# Altium footprint library Header.PcbLib: 115 footprints (part 5 of 8)
Each footprint in its own frame and in the unit in brackets; x right, y up, seen from the top. Pads: shape width x height; smd on the part's side, far side on the other; paste and mask are expansions set on the pad; w line width, h text height; cw(c..) or ccw(c..) is an arc to the next point about the centre after c.
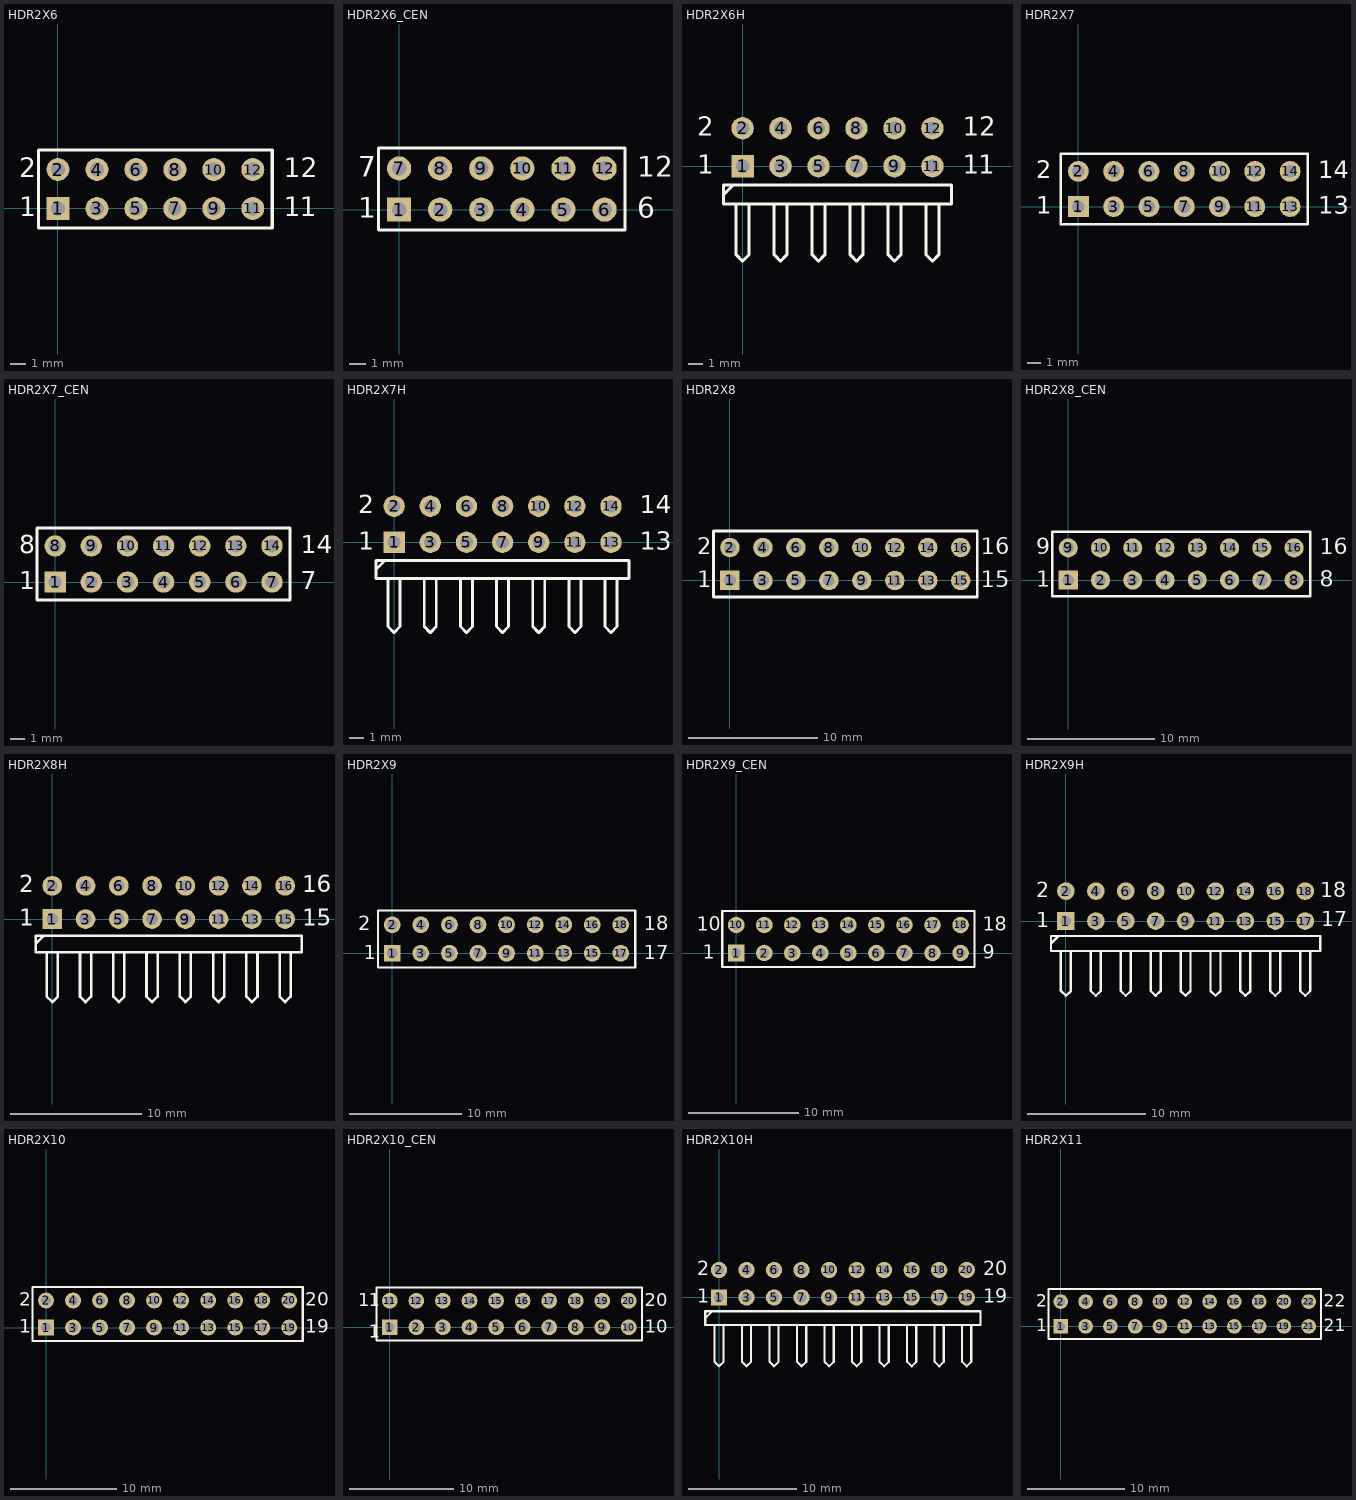
[diagram p4: the footprints below, top view; thin cyan lines are the x and y axes]

## HDR2X6 [mm] "Connector; Header; 6x2 Position"
pads (12):
  rect 1.5x1.5 hole 0.9: 1(0,0)
  round 1.5 hole 0.9: 2(0,2.54) 3(2.54,0) 4(2.54,2.54) 5(5.08,0) 6(5.08,2.54) 7(7.62,0) 8(7.62,2.54) 9(10.16,0) 10(10.16,2.54) 11(12.7,0) 12(12.7,2.54)
Top Overlay:
  lines w0.2: -1.27,-1.27 -1.27,3.81 13.97,3.81 13.97,-1.27 -1.27,-1.27
  text "2" at -2.54,2.032 h1.27
  text "1" at -2.54,-0.508 h1.27
  text "1" at 14.732,-0.508 h1.27
  text "1" at 15.748,-0.508 h1.27
  text "12" at 14.732,2.032 h1.27
3D body: height 1.5, standoff 0, extent -1.27,-1.27 1.27,1.27
3D body: height 1.5, standoff 0, extent -1.27,1.27 1.27,3.81
3D body: height 1.5, standoff 0, extent 1.27,-1.27 3.81,1.27
3D body: height 1.5, standoff 0, extent 1.27,1.27 3.81,3.81
3D body: height 1.5, standoff 0, extent 3.81,-1.27 6.35,1.27
3D body: height 1.5, standoff 0, extent 3.81,1.27 6.35,3.81
3D body: height 1.5, standoff 0, extent 6.35,-1.27 8.89,1.27
3D body: height 1.5, standoff 0, extent 6.35,1.27 8.89,3.81
3D body: height 1.5, standoff 0, extent 8.89,-1.27 11.43,1.27
3D body: height 1.5, standoff 0, extent 8.89,1.27 11.43,3.81
3D body: height 1.5, standoff 0, extent 11.43,-1.27 13.97,1.27
3D body: height 1.5, standoff 0, extent 11.43,1.27 13.97,3.81
3D body: height 7, standoff -1, extent -0.392,2.134 0.406,2.93
3D body: height 7, standoff -1, extent -0.392,-0.406 0.406,0.39
3D body: height 7, standoff -1, extent 2.148,2.134 2.946,2.93
3D body: height 7, standoff -1, extent 2.148,-0.406 2.946,0.39
3D body: height 7, standoff -1, extent 4.688,2.134 5.486,2.93
3D body: height 7, standoff -1, extent 4.688,-0.406 5.486,0.39
3D body: height 7, standoff -1, extent 7.228,2.134 8.026,2.93
3D body: height 7, standoff -1, extent 7.228,-0.406 8.026,0.39

## HDR2X6_CEN [mm] "Connector; Header; 6x2 Position"
pads (12):
  rect 1.5x1.5 hole 0.9: 1(0,0)
  round 1.5 hole 0.9: 2(2.54,0) 3(5.08,0) 4(7.62,0) 5(10.16,0) 6(12.7,0) 7(0,2.54) 8(2.54,2.54) 9(5.08,2.54) 10(7.62,2.54) 11(10.16,2.54) 12(12.7,2.54)
Top Overlay:
  lines w0.2: -1.27,-1.27 -1.27,3.81 13.97,3.81 13.97,-1.27 -1.27,-1.27
  text "7" at -2.54,2.032 h1.27
  text "1" at -2.54,-0.508 h1.27
  text "6" at 14.732,-0.508 h1.27
  text "12" at 14.732,2.032 h1.27
3D body: height 1.5, standoff 0, extent -1.27,-1.27 1.27,1.27
3D body: height 1.5, standoff 0, extent -1.27,1.27 1.27,3.81
3D body: height 1.5, standoff 0, extent 1.27,-1.27 3.81,1.27
3D body: height 1.5, standoff 0, extent 1.27,1.27 3.81,3.81
3D body: height 1.5, standoff 0, extent 3.81,-1.27 6.35,1.27
3D body: height 1.5, standoff 0, extent 3.81,1.27 6.35,3.81
3D body: height 1.5, standoff 0, extent 6.35,-1.27 8.89,1.27
3D body: height 1.5, standoff 0, extent 6.35,1.27 8.89,3.81
3D body: height 1.5, standoff 0, extent 8.89,-1.27 11.43,1.27
3D body: height 1.5, standoff 0, extent 8.89,1.27 11.43,3.81
3D body: height 1.5, standoff 0, extent 11.43,-1.27 13.97,1.27
3D body: height 1.5, standoff 0, extent 11.43,1.27 13.97,3.81

## HDR2X6H [mm] "Connector; Header; 6x2 Position; Right Angle"
pads (12):
  rect 1.5x1.5 hole 0.9: 1(0,0)
  round 1.5 hole 0.9: 2(0,2.54) 3(2.54,0) 4(2.54,2.54) 5(5.08,0) 6(5.08,2.54) 7(7.62,0) 8(7.62,2.54) 9(10.16,0) 10(10.16,2.54) 11(12.7,0) 12(12.7,2.54)
Top Overlay:
  lines w0.2: -1.27,-1.905 -0.635,-1.27 ; -0.423,-2.54 -0.423,-5.927 0,-6.35 0.423,-5.927 0.423,-2.54 ; 2.117,-2.54 2.117,-5.927 2.54,-6.35 2.963,-5.927 2.963,-2.54 ; 4.657,-2.54 4.657,-5.927 5.08,-6.35 5.503,-5.927 5.503,-2.54 ; 7.197,-2.54 7.197,-5.927 7.62,-6.35 8.043,-5.927 8.043,-2.54 ; 9.737,-2.54 9.737,-5.927 10.16,-6.35 10.583,-5.927 10.583,-2.54 ; 12.277,-2.54 12.277,-5.927 12.7,-6.35 13.123,-5.927 13.123,-2.54 ; -1.27,-2.54 13.97,-2.54 13.97,-1.27 -1.27,-1.27 -1.27,-2.54
  text "2" at -3.048,2.032 h1.27
  text "1" at -3.048,-0.508 h1.27
  text "1" at 14.732,-0.508 h1.27
  text "1" at 15.748,-0.508 h1.27
  text "12" at 14.732,2.032 h1.27

## HDR2X7 [mm] "Connector; Header; 7x2 Position"
pads (14):
  rect 1.5x1.5 hole 0.9: 1(0,0)
  round 1.5 hole 0.9: 2(0,2.54) 3(2.54,0) 4(2.54,2.54) 5(5.08,0) 6(5.08,2.54) 7(7.62,0) 8(7.62,2.54) 9(10.16,0) 10(10.16,2.54) 11(12.7,0) 12(12.7,2.54) 13(15.24,0) 14(15.24,2.54)
Top Overlay:
  lines w0.2: -1.27,-1.27 16.51,-1.27 16.51,3.81 -1.27,3.81 -1.27,-1.27
  text "13" at 17.272,-0.508 h1.27
  text "14" at 17.272,2.032 h1.27
  text "1" at -3.048,-0.508 h1.27
  text "2" at -3.048,2.032 h1.27
3D body: height 1.5, standoff 0, extent -1.27,-1.27 1.27,1.27
3D body: height 1.5, standoff 0, extent -1.27,1.27 1.27,3.81
3D body: height 1.5, standoff 0, extent 1.27,-1.27 3.81,1.27
3D body: height 1.5, standoff 0, extent 1.27,1.27 3.81,3.81
3D body: height 1.5, standoff 0, extent 3.81,-1.27 6.35,1.27
3D body: height 1.5, standoff 0, extent 3.81,1.27 6.35,3.81
3D body: height 1.5, standoff 0, extent 6.35,-1.27 8.89,1.27
3D body: height 1.5, standoff 0, extent 6.35,1.27 8.89,3.81
3D body: height 1.5, standoff 0, extent 8.89,-1.27 11.43,1.27
3D body: height 1.5, standoff 0, extent 8.89,1.27 11.43,3.81
3D body: height 1.5, standoff 0, extent 11.43,-1.27 13.97,1.27
3D body: height 1.5, standoff 0, extent 11.43,1.27 13.97,3.81
3D body: height 1.5, standoff 0, extent 13.97,-1.27 16.51,1.27
3D body: height 1.5, standoff 0, extent 13.97,1.27 16.51,3.81

## HDR2X7_CEN [mm] "Connector; Header; 7x2 Position"
pads (14):
  rect 1.5x1.5 hole 0.9: 1(0,0)
  round 1.5 hole 0.9: 2(2.54,0) 3(5.08,0) 4(7.62,0) 5(10.16,0) 6(12.7,0) 7(15.24,0) 8(0,2.54) 9(2.54,2.54) 10(5.08,2.54) 11(7.62,2.54) 12(10.16,2.54) 13(12.7,2.54) 14(15.24,2.54)
Top Overlay:
  lines w0.2: -1.27,-1.27 -1.27,3.81 16.51,3.81 16.51,-1.27 -1.27,-1.27
  text "14" at 17.272,2.032 h1.27
  text "7" at 17.272,-0.508 h1.27
  text "1" at -2.54,-0.508 h1.27
  text "8" at -2.54,2.032 h1.27
3D body: height 1.5, standoff 0, extent -1.27,-1.27 1.27,1.27
3D body: height 1.5, standoff 0, extent -1.27,1.27 1.27,3.81
3D body: height 1.5, standoff 0, extent 1.27,-1.27 3.81,1.27
3D body: height 1.5, standoff 0, extent 1.27,1.27 3.81,3.81
3D body: height 1.5, standoff 0, extent 3.81,-1.27 6.35,1.27
3D body: height 1.5, standoff 0, extent 3.81,1.27 6.35,3.81
3D body: height 1.5, standoff 0, extent 6.35,-1.27 8.89,1.27
3D body: height 1.5, standoff 0, extent 6.35,1.27 8.89,3.81
3D body: height 1.5, standoff 0, extent 8.89,-1.27 11.43,1.27
3D body: height 1.5, standoff 0, extent 8.89,1.27 11.43,3.81
3D body: height 1.5, standoff 0, extent 11.43,-1.27 13.97,1.27
3D body: height 1.5, standoff 0, extent 11.43,1.27 13.97,3.81
3D body: height 1.5, standoff 0, extent 13.97,-1.27 16.51,1.27
3D body: height 1.5, standoff 0, extent 13.97,1.27 16.51,3.81

## HDR2X7H [mm] "Connector; Header; 7x2 Position; Right Angle"
pads (14):
  rect 1.5x1.5 hole 0.9: 1(0,0)
  round 1.5 hole 0.9: 2(0,2.54) 3(2.54,0) 4(2.54,2.54) 5(5.08,0) 6(5.08,2.54) 7(7.62,0) 8(7.62,2.54) 9(10.16,0) 10(10.16,2.54) 11(12.7,0) 12(12.7,2.54) 13(15.24,0) 14(15.24,2.54)
Top Overlay:
  lines w0.2: -1.27,-1.905 -0.635,-1.27 ; -0.423,-2.54 -0.423,-5.927 0,-6.35 0.423,-5.927 0.423,-2.54 ; 2.117,-2.54 2.117,-5.927 2.54,-6.35 2.963,-5.927 2.963,-2.54 ; 4.657,-2.54 4.657,-5.927 5.08,-6.35 5.503,-5.927 5.503,-2.54 ; 7.197,-2.54 7.197,-5.927 7.62,-6.35 8.043,-5.927 8.043,-2.54 ; 9.737,-2.54 9.737,-5.927 10.16,-6.35 10.583,-5.927 10.583,-2.54 ; 12.277,-2.54 12.277,-5.927 12.7,-6.35 13.123,-5.927 13.123,-2.54 ; 14.817,-2.54 14.817,-5.927 15.24,-6.35 15.663,-5.927 15.663,-2.54 ; -1.27,-2.54 -1.27,-1.27 16.51,-1.27 16.51,-2.54 -1.27,-2.54
  text "2" at -2.54,2.032 h1.27
  text "1" at -2.54,-0.508 h1.27
  text "13" at 17.272,-0.508 h1.27
  text "14" at 17.272,2.032 h1.27

## HDR2X8 [mm] "Connector; Header; 8x2 Position"
pads (16):
  rect 1.5x1.5 hole 0.9: 1(0,0)
  round 1.5 hole 0.9: 2(0,2.54) 3(2.54,0) 4(2.54,2.54) 5(5.08,0) 6(5.08,2.54) 7(7.62,0) 8(7.62,2.54) 9(10.16,0) 10(10.16,2.54) 11(12.7,0) 12(12.7,2.54) 13(15.24,0) 14(15.24,2.54) 15(17.78,0) 16(17.78,2.54)
Top Overlay:
  lines w0.2: -1.27,-1.27 19.05,-1.27 19.05,3.81 -1.27,3.81 -1.27,-1.27
  text "16" at 19.304,2.032 h1.27
  text "15" at 19.304,-0.508 h1.27
  text "1" at -2.54,-0.508 h1.27
  text "2" at -2.54,2.032 h1.27
3D body: height 1.5, standoff 0, extent -1.27,-1.27 1.27,1.27
3D body: height 1.5, standoff 0, extent -1.27,1.27 1.27,3.81
3D body: height 1.5, standoff 0, extent 1.27,-1.27 3.81,1.27
3D body: height 1.5, standoff 0, extent 1.27,1.27 3.81,3.81
3D body: height 1.5, standoff 0, extent 3.81,-1.27 6.35,1.27
3D body: height 1.5, standoff 0, extent 3.81,1.27 6.35,3.81
3D body: height 1.5, standoff 0, extent 6.35,-1.27 8.89,1.27
3D body: height 1.5, standoff 0, extent 6.35,1.27 8.89,3.81
3D body: height 1.5, standoff 0, extent 8.89,-1.27 11.43,1.27
3D body: height 1.5, standoff 0, extent 8.89,1.27 11.43,3.81
3D body: height 1.5, standoff 0, extent 11.43,-1.27 13.97,1.27
3D body: height 1.5, standoff 0, extent 11.43,1.27 13.97,3.81
3D body: height 1.5, standoff 0, extent 13.97,-1.27 16.51,1.27
3D body: height 1.5, standoff 0, extent 13.97,1.27 16.51,3.81
3D body: height 1.5, standoff 0, extent 16.51,-1.27 19.05,1.27
3D body: height 1.5, standoff 0, extent 16.51,1.27 19.05,3.81

## HDR2X8_CEN [mm] "Connector; Header; 8x2 Position"
pads (16):
  rect 1.5x1.5 hole 0.9: 1(0,0)
  round 1.5 hole 0.9: 2(2.54,0) 3(5.08,0) 4(7.62,0) 5(10.16,0) 6(12.7,0) 7(15.24,0) 8(17.78,0) 9(0,2.54) 10(2.54,2.54) 11(5.08,2.54) 12(7.62,2.54) 13(10.16,2.54) 14(12.7,2.54) 15(15.24,2.54) 16(17.78,2.54)
Top Overlay:
  lines w0.2: -1.27,-1.27 -1.27,3.81 19.05,3.81 19.05,-1.27 -1.27,-1.27
  text "9" at -2.54,2.032 h1.27
  text "1" at -2.54,-0.508 h1.27
  text "8" at 19.812,-0.508 h1.27
  text "16" at 19.812,2.032 h1.27
3D body: height 1.5, standoff 0, extent -1.27,-1.27 1.27,1.27
3D body: height 1.5, standoff 0, extent -1.27,1.27 1.27,3.81
3D body: height 1.5, standoff 0, extent 1.27,-1.27 3.81,1.27
3D body: height 1.5, standoff 0, extent 1.27,1.27 3.81,3.81
3D body: height 1.5, standoff 0, extent 3.81,-1.27 6.35,1.27
3D body: height 1.5, standoff 0, extent 3.81,1.27 6.35,3.81
3D body: height 1.5, standoff 0, extent 6.35,-1.27 8.89,1.27
3D body: height 1.5, standoff 0, extent 6.35,1.27 8.89,3.81
3D body: height 1.5, standoff 0, extent 8.89,-1.27 11.43,1.27
3D body: height 1.5, standoff 0, extent 8.89,1.27 11.43,3.81
3D body: height 1.5, standoff 0, extent 11.43,-1.27 13.97,1.27
3D body: height 1.5, standoff 0, extent 11.43,1.27 13.97,3.81
3D body: height 1.5, standoff 0, extent 13.97,-1.27 16.51,1.27
3D body: height 1.5, standoff 0, extent 13.97,1.27 16.51,3.81
3D body: height 1.5, standoff 0, extent 16.51,-1.27 19.05,1.27
3D body: height 1.5, standoff 0, extent 16.51,1.27 19.05,3.81

## HDR2X8H [mm] "Connector; Header; 8x2 Position; Right Angle"
pads (16):
  rect 1.5x1.5 hole 0.9: 1(0,0)
  round 1.5 hole 0.9: 2(0,2.54) 3(2.54,0) 4(2.54,2.54) 5(5.08,0) 6(5.08,2.54) 7(7.62,0) 8(7.62,2.54) 9(10.16,0) 10(10.16,2.54) 11(12.7,0) 12(12.7,2.54) 13(15.24,0) 14(15.24,2.54) 15(17.78,0) 16(17.78,2.54)
Top Overlay:
  lines w0.2: -1.27,-1.905 -0.635,-1.27 ; -0.423,-2.54 -0.423,-5.927 0,-6.35 0.423,-5.927 0.423,-2.54 ; 2.117,-2.54 2.117,-5.927 2.54,-6.35 2.963,-5.927 2.963,-2.54 ; 4.657,-2.54 4.657,-5.927 5.08,-6.35 5.503,-5.927 5.503,-2.54 ; 7.197,-2.54 7.197,-5.927 7.62,-6.35 8.043,-5.927 8.043,-2.54 ; 9.737,-2.54 9.737,-5.927 10.16,-6.35 10.583,-5.927 10.583,-2.54 ; 12.277,-2.54 12.277,-5.927 12.7,-6.35 13.123,-5.927 13.123,-2.54 ; 14.817,-2.54 14.817,-5.927 15.24,-6.35 15.663,-5.927 15.663,-2.54 ; 17.357,-2.54 17.357,-5.927 17.78,-6.35 18.203,-5.927 18.203,-2.54 ; -1.27,-2.54 19.05,-2.54 19.05,-1.27 -1.27,-1.27 -1.27,-2.54
  text "16" at 19.092,2.032 h1.27
  text "15" at 19.069,-0.508 h1.27
  text "1" at -2.54,-0.508 h1.27
  text "2" at -2.54,2.032 h1.27

## HDR2X9 [mm] "Connector; Header; 9x2 Position"
pads (18):
  rect 1.5x1.5 hole 0.9: 1(0,0)
  round 1.5 hole 0.9: 2(0,2.54) 3(2.54,0) 4(2.54,2.54) 5(5.08,0) 6(5.08,2.54) 7(7.62,0) 8(7.62,2.54) 9(10.16,0) 10(10.16,2.54) 11(12.7,0) 12(12.7,2.54) 13(15.24,0) 14(15.24,2.54) 15(17.78,0) 16(17.78,2.54) 17(20.32,0) 18(20.32,2.54)
Top Overlay:
  lines w0.2: -1.27,-1.27 21.59,-1.27 21.59,3.81 -1.27,3.81 -1.27,-1.27
  text "18" at 22.352,2.032 h1.27
  text "17" at 22.352,-0.508 h1.27
  text "1" at -2.54,-0.508 h1.27
  text "2" at -3.048,2.032 h1.27
3D body: height 1.5, standoff 0, extent -1.27,-1.27 1.27,1.27
3D body: height 1.5, standoff 0, extent -1.27,1.27 1.27,3.81
3D body: height 1.5, standoff 0, extent 1.27,-1.27 3.81,1.27
3D body: height 1.5, standoff 0, extent 1.27,1.27 3.81,3.81
3D body: height 1.5, standoff 0, extent 3.81,-1.27 6.35,1.27
3D body: height 1.5, standoff 0, extent 3.81,1.27 6.35,3.81
3D body: height 1.5, standoff 0, extent 6.35,-1.27 8.89,1.27
3D body: height 1.5, standoff 0, extent 6.35,1.27 8.89,3.81
3D body: height 1.5, standoff 0, extent 8.89,-1.27 11.43,1.27
3D body: height 1.5, standoff 0, extent 8.89,1.27 11.43,3.81
3D body: height 1.5, standoff 0, extent 11.43,-1.27 13.97,1.27
3D body: height 1.5, standoff 0, extent 11.43,1.27 13.97,3.81
3D body: height 1.5, standoff 0, extent 13.97,-1.27 16.51,1.27
3D body: height 1.5, standoff 0, extent 13.97,1.27 16.51,3.81
3D body: height 1.5, standoff 0, extent 16.51,-1.27 19.05,1.27
3D body: height 1.5, standoff 0, extent 16.51,1.27 19.05,3.81
3D body: height 1.5, standoff 0, extent 19.05,-1.27 21.59,1.27
3D body: height 1.5, standoff 0, extent 19.05,1.27 21.59,3.81

## HDR2X9_CEN [mm] "Connector; Header; 9x2 Position"
pads (18):
  rect 1.5x1.5 hole 0.9: 1(0,0)
  round 1.5 hole 0.9: 2(2.54,0) 3(5.08,0) 4(7.62,0) 5(10.16,0) 6(12.7,0) 7(15.24,0) 8(17.78,0) 9(20.32,0) 10(0,2.54) 11(2.54,2.54) 12(5.08,2.54) 13(7.62,2.54) 14(10.16,2.54) 15(12.7,2.54) 16(15.24,2.54) 17(17.78,2.54) 18(20.32,2.54)
Top Overlay:
  lines w0.2: -1.27,-1.27 21.59,-1.27 21.59,3.81 -1.27,3.81 -1.27,-1.27
  text "18" at 22.352,2.032 h1.27
  text "9" at 22.352,-0.508 h1.27
  text "1" at -3.048,-0.508 h1.27
  text "10" at -3.556,2.032 h1.27
3D body: height 1.5, standoff 0, extent 19.05,1.27 21.59,3.81
3D body: height 1.5, standoff 0, extent 19.05,-1.27 21.59,1.27
3D body: height 1.5, standoff 0, extent 16.51,1.27 19.05,3.81
3D body: height 1.5, standoff 0, extent 16.51,-1.27 19.05,1.27
3D body: height 1.5, standoff 0, extent 13.97,1.27 16.51,3.81
3D body: height 1.5, standoff 0, extent 13.97,-1.27 16.51,1.27
3D body: height 1.5, standoff 0, extent 11.43,1.27 13.97,3.81
3D body: height 1.5, standoff 0, extent 11.43,-1.27 13.97,1.27
3D body: height 1.5, standoff 0, extent 9.144,1.27 11.684,3.81
3D body: height 1.5, standoff 0, extent 9.144,-1.27 11.684,1.27
3D body: height 1.5, standoff 0, extent 6.35,1.27 8.89,3.81
3D body: height 1.5, standoff 0, extent 6.35,-1.27 8.89,1.27
3D body: height 1.5, standoff 0, extent 3.81,1.27 6.35,3.81
3D body: height 1.5, standoff 0, extent 3.81,-1.27 6.35,1.27
3D body: height 1.5, standoff 0, extent 1.27,1.27 3.81,3.81
3D body: height 1.5, standoff 0, extent 1.27,-1.27 3.81,1.27
3D body: height 1.5, standoff 0, extent -1.27,1.27 1.27,3.81
3D body: height 1.5, standoff 0, extent -1.27,-1.27 1.27,1.27

## HDR2X9H [mm] "Connector; Header; 9x2 Position; Right Angle"
pads (18):
  rect 1.5x1.5 hole 0.9: 1(0,0)
  round 1.5 hole 0.9: 2(0,2.54) 3(2.54,0) 4(2.54,2.54) 5(5.08,0) 6(5.08,2.54) 7(7.62,0) 8(7.62,2.54) 9(10.16,0) 10(10.16,2.54) 11(12.7,0) 12(12.7,2.54) 13(15.24,0) 14(15.24,2.54) 15(17.78,0) 16(17.78,2.54) 17(20.32,0) 18(20.32,2.54)
Top Overlay:
  lines w0.2: -1.27,-1.905 -0.635,-1.27 ; -0.423,-2.54 -0.423,-5.927 0,-6.35 0.423,-5.927 0.423,-2.54 ; 2.117,-2.54 2.117,-5.927 2.54,-6.35 2.963,-5.927 2.963,-2.54 ; 4.657,-2.54 4.657,-5.927 5.08,-6.35 5.503,-5.927 5.503,-2.54 ; 7.197,-2.54 7.197,-5.927 7.62,-6.35 8.043,-5.927 8.043,-2.54 ; 9.737,-2.54 9.737,-5.927 10.16,-6.35 10.583,-5.927 10.583,-2.54 ; 12.277,-2.54 12.277,-5.927 12.7,-6.35 13.123,-5.927 13.123,-2.54 ; 14.817,-2.54 14.817,-5.927 15.24,-6.35 15.663,-5.927 15.663,-2.54 ; 17.357,-2.54 17.357,-5.927 17.78,-6.35 18.203,-5.927 18.203,-2.54 ; 19.897,-2.54 19.897,-5.927 20.32,-6.35 20.743,-5.927 20.743,-2.54 ; -1.27,-2.54 21.59,-2.54 21.59,-1.27 -1.27,-1.27 -1.27,-2.54
  text "2" at -2.54,2.032 h1.27
  text "18" at 21.593,2.032 h1.27
  text "17" at 21.664,-0.44 h1.27
  text "1" at -2.54,-0.508 h1.27

## HDR2X10 [mm] "Connector; Header; 10x2 Position"
pads (20):
  rect 1.5x1.5 hole 0.9: 1(0,0)
  round 1.5 hole 0.9: 2(0,2.54) 3(2.54,0) 4(2.54,2.54) 5(5.08,0) 6(5.08,2.54) 7(7.62,0) 8(7.62,2.54) 9(10.16,0) 10(10.16,2.54) 11(12.7,0) 12(12.7,2.54) 13(15.24,0) 14(15.24,2.54) 15(17.78,0) 16(17.78,2.54) 17(20.32,0) 18(20.32,2.54) 19(22.86,0) 20(22.86,2.54)
Top Overlay:
  lines w0.2: -1.27,-1.27 0.635,-1.27 24.13,-1.27 24.13,3.81 0.635,3.81 -1.27,3.81 -1.27,-1.27
  text "20" at 24.384,2.032 h1.27
  text "19" at 24.384,-0.508 h1.27
  text "1" at -2.54,-0.508 h1.27
  text "2" at -2.54,2.032 h1.27
3D body: height 1.5, standoff 0, extent 21.59,1.27 24.13,3.81
3D body: height 1.5, standoff 0, extent 21.59,-1.27 24.13,1.27
3D body: height 1.5, standoff 0, extent 19.05,1.27 21.59,3.81
3D body: height 1.5, standoff 0, extent 19.05,-1.27 21.59,1.27
3D body: height 1.5, standoff 0, extent 16.51,1.27 19.05,3.81
3D body: height 1.5, standoff 0, extent 16.51,-1.27 19.05,1.27
3D body: height 1.5, standoff 0, extent 13.97,1.27 16.51,3.81
3D body: height 1.5, standoff 0, extent 13.97,-1.27 16.51,1.27
3D body: height 1.5, standoff 0, extent 11.43,1.27 13.97,3.81
3D body: height 1.5, standoff 0, extent 11.43,-1.27 13.97,1.27
3D body: height 1.5, standoff 0, extent 8.89,1.27 11.43,3.81
3D body: height 1.5, standoff 0, extent 8.89,-1.27 11.43,1.27
3D body: height 1.5, standoff 0, extent 6.35,1.27 8.89,3.81
3D body: height 1.5, standoff 0, extent 6.35,-1.27 8.89,1.27
3D body: height 1.5, standoff 0, extent 3.81,1.27 6.35,3.81
3D body: height 1.5, standoff 0, extent 3.81,-1.27 6.35,1.27
3D body: height 1.5, standoff 0, extent 1.27,1.27 3.81,3.81
3D body: height 1.5, standoff 0, extent 1.27,-1.27 3.81,1.27
3D body: height 1.5, standoff 0, extent -1.143,1.143 1.397,3.683
3D body: height 1.5, standoff 0, extent -1.143,-1.397 1.397,1.143

## HDR2X10_CEN [mm] "Connector; Header; 10x2 Position"
pads (20):
  rect 1.5x1.5 hole 0.9: 1(0,0)
  round 1.5 hole 0.9: 2(2.54,0) 3(5.08,0) 4(7.62,0) 5(10.16,0) 6(12.7,0) 7(15.24,0) 8(17.78,0) 9(20.32,0) 10(22.86,0) 11(0,2.54) 12(2.54,2.54) 13(5.08,2.54) 14(7.62,2.54) 15(10.16,2.54) 16(12.7,2.54) 17(15.24,2.54) 18(17.78,2.54) 19(20.32,2.54) 20(22.86,2.54)
Top Overlay:
  lines w0.2: -1.27,-1.27 24.13,-1.27 24.13,3.81 -1.27,3.81 -1.27,-1.27
  text "1" at -2.032,-1.016 h1.27
  text "1" at -3.048,2.032 h1.27
  text "1" at -2.032,2.032 h1.27
  text "10" at 24.384,-0.508 h1.27
  text "20" at 24.384,2.032 h1.27
3D body: height 1.5, standoff 0, extent 21.59,1.27 24.13,3.81
3D body: height 1.5, standoff 0, extent 21.59,-1.27 24.13,1.27
3D body: height 1.5, standoff 0, extent 19.05,1.27 21.59,3.81
3D body: height 1.5, standoff 0, extent 19.05,-1.27 21.59,1.27
3D body: height 1.5, standoff 0, extent 16.51,1.27 19.05,3.81
3D body: height 1.5, standoff 0, extent 16.51,-1.27 19.05,1.27
3D body: height 1.5, standoff 0, extent 13.97,1.27 16.51,3.81
3D body: height 1.5, standoff 0, extent 13.97,-1.27 16.51,1.27
3D body: height 1.5, standoff 0, extent 11.43,1.27 13.97,3.81
3D body: height 1.5, standoff 0, extent 11.43,-1.27 13.97,1.27
3D body: height 1.5, standoff 0, extent 8.89,1.27 11.43,3.81
3D body: height 1.5, standoff 0, extent 8.89,-1.27 11.43,1.27
3D body: height 1.5, standoff 0, extent 6.35,1.27 8.89,3.81
3D body: height 1.5, standoff 0, extent 6.35,-1.27 8.89,1.27
3D body: height 1.5, standoff 0, extent 3.81,1.27 6.35,3.81
3D body: height 1.5, standoff 0, extent 3.81,-1.27 6.35,1.27
3D body: height 1.5, standoff 0, extent 1.27,1.27 3.81,3.81
3D body: height 1.5, standoff 0, extent 1.27,-1.27 3.81,1.27
3D body: height 1.5, standoff 0, extent -1.27,1.27 1.27,3.81
3D body: height 1.5, standoff 0, extent -1.27,-1.27 1.27,1.27

## HDR2X10H [mm] "Connector; Header; 10x2 Position; Right Angle"
pads (20):
  rect 1.5x1.5 hole 0.9: 1(0,0)
  round 1.5 hole 0.9: 2(0,2.54) 3(2.54,0) 4(2.54,2.54) 5(5.08,0) 6(5.08,2.54) 7(7.62,0) 8(7.62,2.54) 9(10.16,0) 10(10.16,2.54) 11(12.7,0) 12(12.7,2.54) 13(15.24,0) 14(15.24,2.54) 15(17.78,0) 16(17.78,2.54) 17(20.32,0) 18(20.32,2.54) 19(22.86,0) 20(22.86,2.54)
Top Overlay:
  lines w0.2: -1.27,-1.905 -0.635,-1.27 ; -0.423,-2.54 -0.423,-5.927 0,-6.35 0.423,-5.927 0.423,-2.54 ; 2.117,-2.54 2.117,-5.927 2.54,-6.35 2.963,-5.927 2.963,-2.54 ; 4.657,-2.54 4.657,-5.927 5.08,-6.35 5.503,-5.927 5.503,-2.54 ; 7.197,-2.54 7.197,-5.927 7.62,-6.35 8.043,-5.927 8.043,-2.54 ; 9.737,-2.54 9.737,-5.927 10.16,-6.35 10.583,-5.927 10.583,-2.54 ; 12.277,-2.54 12.277,-5.927 12.7,-6.35 13.123,-5.927 13.123,-2.54 ; 14.817,-2.54 14.817,-5.927 15.24,-6.35 15.663,-5.927 15.663,-2.54 ; 17.357,-2.54 17.357,-5.927 17.78,-6.35 18.203,-5.927 18.203,-2.54 ; 19.897,-2.54 19.897,-5.927 20.32,-6.35 20.743,-5.927 20.743,-2.54 ; 22.437,-2.54 22.437,-5.927 22.86,-6.35 23.283,-5.927 23.283,-2.54 ; -1.27,-2.54 24.13,-2.54 24.13,-1.27 -1.27,-1.27 -1.27,-2.54
  text "20" at 24.384,2.032 h1.27
  text "19" at 24.384,-0.508 h1.27
  text "2" at -2.032,2.032 h1.27
  text "1" at -2.032,-0.508 h1.27

## HDR2X11 [mm] "Connector; Header; 11x2 Position"
pads (22):
  rect 1.5x1.5 hole 0.9: 1(0,0)
  round 1.5 hole 0.9: 2(0,2.54) 3(2.54,0) 4(2.54,2.54) 5(5.08,0) 6(5.08,2.54) 7(7.62,0) 8(7.62,2.54) 9(10.16,0) 10(10.16,2.54) 11(12.7,0) 12(12.7,2.54) 13(15.24,0) 14(15.24,2.54) 15(17.78,0) 16(17.78,2.54) 17(20.32,0) 18(20.32,2.54) 19(22.86,0) 20(22.86,2.54) 21(25.4,0) 22(25.4,2.54)
Top Overlay:
  lines w0.2: -1.27,-1.27 26.67,-1.27 26.67,3.81 -1.27,3.81 -1.27,-1.27
  text "22" at 26.924,2.032 h1.27
  text "21" at 26.924,-0.508 h1.27
  text "2" at -2.54,2.032 h1.27
  text "1" at -2.54,-0.508 h1.27
3D body: height 1.5, standoff 0, extent 24.13,1.27 26.67,3.81
3D body: height 1.5, standoff 0, extent 24.13,-1.27 26.67,1.27
3D body: height 1.5, standoff 0, extent 21.59,1.27 24.13,3.81
3D body: height 1.5, standoff 0, extent 21.59,-1.27 24.13,1.27
3D body: height 1.5, standoff 0, extent 19.05,1.27 21.59,3.81
3D body: height 1.5, standoff 0, extent 19.05,-1.27 21.59,1.27
3D body: height 1.5, standoff 0, extent 16.51,1.27 19.05,3.81
3D body: height 1.5, standoff 0, extent 16.51,-1.27 19.05,1.27
3D body: height 1.5, standoff 0, extent 13.97,1.27 16.51,3.81
3D body: height 1.5, standoff 0, extent 13.97,-1.27 16.51,1.27
3D body: height 1.5, standoff 0, extent 11.43,1.27 13.97,3.81
3D body: height 1.5, standoff 0, extent 11.43,-1.27 13.97,1.27
3D body: height 1.5, standoff 0, extent 8.89,1.27 11.43,3.81
3D body: height 1.5, standoff 0, extent 8.89,-1.27 11.43,1.27
3D body: height 1.5, standoff 0, extent 6.35,1.27 8.89,3.81
3D body: height 1.5, standoff 0, extent 6.35,-1.27 8.89,1.27
3D body: height 1.5, standoff 0, extent 3.81,1.27 6.35,3.81
3D body: height 1.5, standoff 0, extent 3.81,-1.27 6.35,1.27
3D body: height 1.5, standoff 0, extent 1.27,1.27 3.81,3.81
3D body: height 1.5, standoff 0, extent 1.27,-1.27 3.81,1.27
3D body: height 1.5, standoff 0, extent -1.27,1.27 1.27,3.81
3D body: height 1.5, standoff 0, extent -1.27,-1.27 1.27,1.27